# EAGLE library part IV-25_DISP (library vfd-robjen)
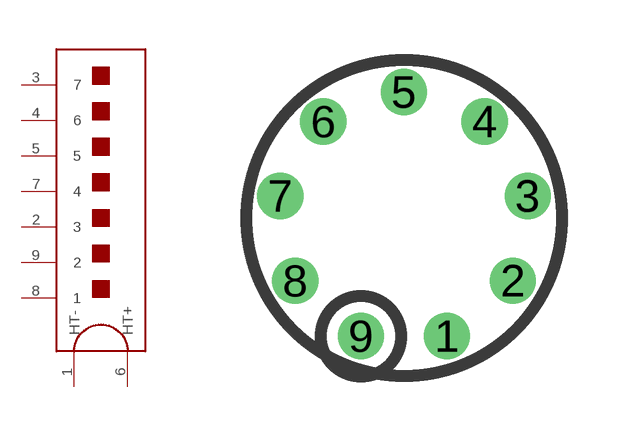
[diagram p4: symbol with the pads of IV-25; footprint IV-25]

Designator prefix -

## IV-25_DISP  [IV-25]
1  HT-  pwr
2  3  in
3  7  in
4  6  in
5  5  in
6  HT+  pwr
7  4  in
8  1  in
9  2  in

## Footprint IV-25 (pad centres in mm)
Eagle SCR autogenerated 9 pin Nixie socket
drill 0.65: 1 1.076,-2.955; 2 2.724,-1.572; 3 3.097,0.546; 4 2.022,2.409; 5 0,3.145; 6 -2.022,2.409; 7 -3.097,0.546; 8 -2.724,-1.572; 9 -1.076,-2.955